# EAGLE library part ULITMATE-GPS-PI-HAT (library HElicopterLib)
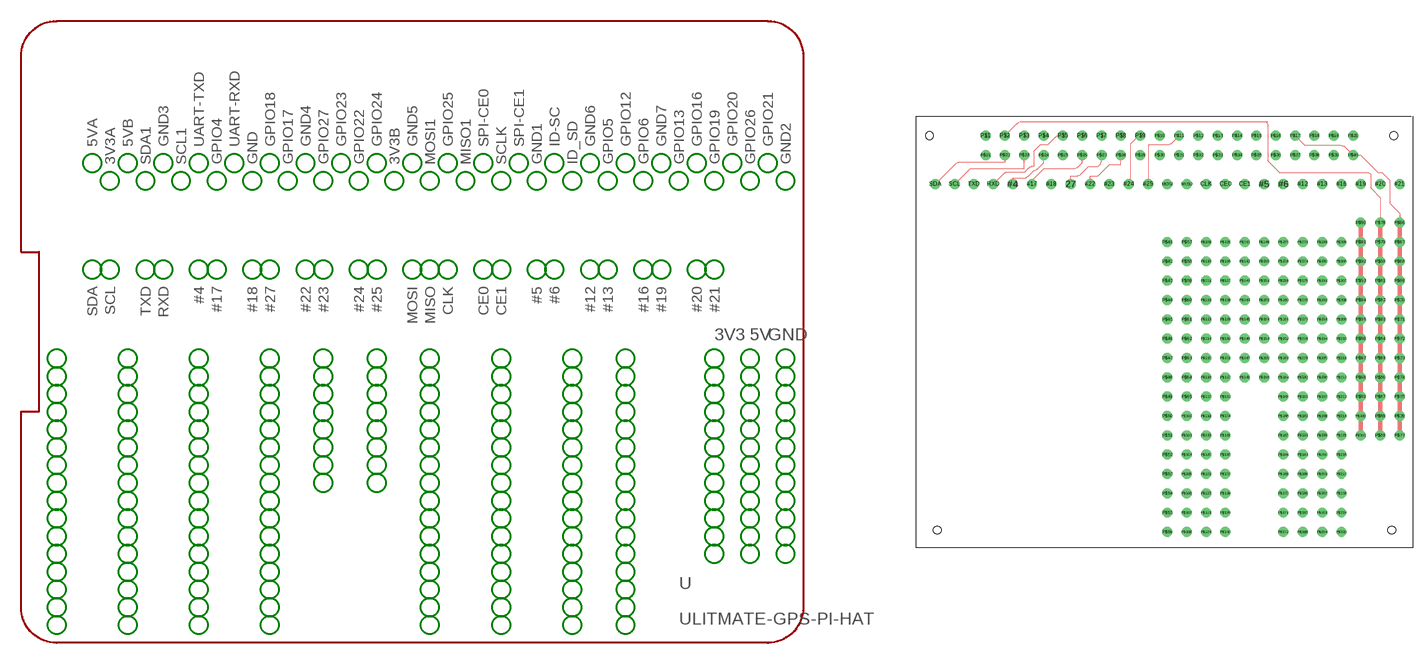
[diagram p1: symbol with the pads of ULITMATE-GPS-PI-HAT; footprint ULITMATE-GPS-PI-HAT]

Designator prefix -

## ULITMATE-GPS-PI-HAT  [ULITMATE-GPS-PI-HAT]
27  #27
#4  #4
#5  #5
#6  #6
#12  #12
#13  #13
#16  #16
#17  #17
#18  #18
#19  #19
#20  #20
#21  #21
#22  #22
#23  #23
#24  #24
#25  #25
CE0  CE0
CE1  CE1
CLK  CLK
MISO  MISO
MOSI  MOSI
P$1  5VA
P$2  5VB
P$3  GND3
P$4  UART-TXD
P$5  UART-RXD
P$6  GPIO18
P$7  GND4
P$8  GPIO23
P$9  GPIO24
P$10  GND5
P$11  GPIO25
P$12  SPI-CE0
P$13  SPI-CE1
P$14  ID-SC
P$15  GND6
P$16  GPIO12
P$17  GND7
P$18  GPIO16
P$19  GPIO20
P$20  GPIO21
P$21  3V3A
P$22  SDA1
P$23  SCL1
P$24  GPIO4
P$25  GND
P$26  GPIO17
P$27  GPIO27
P$28  GPIO22
P$29  3V3B
P$30  MOSI1
P$31  MISO1
P$32  SCLK
P$33  GND1
P$34  ID_SD
P$35  GPIO5
P$36  GPIO6
P$37  GPIO13
P$38  GPIO19
P$39  GPIO26
P$40  GND2
P$41  P$37
P$42  P$38
P$43  P$39
P$44  P$40
P$45  P$41
P$46  P$42
P$47  P$43
P$48  P$44
P$49  P$45
P$50  P$46
P$51  P$47
P$52  P$48
P$53  P$49
P$54  P$50
P$55  P$51
P$56  P$52
P$57  P$53
P$58  P$54
P$59  P$55
P$60  P$56
P$61  P$57
P$62  P$58
P$63  P$59
P$64  P$60
P$65  P$61
P$66  P$1  pwr
P$67  P$2  pwr
P$68  P$3  pwr
P$69  P$4  pwr
P$70  P$5  pwr
P$71  P$6  pwr
P$72  P$7  pwr
P$73  P$8  pwr
P$74  P$9  pwr
P$75  P$10  pwr
P$76  P$11  pwr
P$77  P$12  pwr
P$78  P$13  pwr
P$79  P$14  pwr
P$80  P$15  pwr
P$81  P$16  pwr
P$82  P$17  pwr
P$83  P$18  pwr
P$84  P$19  pwr
P$85  P$20  pwr
P$86  P$21  pwr
P$87  P$22  pwr
P$88  P$23  pwr
P$89  P$24  pwr
P$90  P$25  pwr
P$91  P$26  pwr
P$92  P$27  pwr
P$93  P$28  pwr
P$94  P$29  pwr
P$95  P$30  pwr
P$96  P$31  pwr
P$97  P$32  pwr
P$98  P$33  pwr
P$99  P$34  pwr
P$100  P$35  pwr
P$101  P$36  pwr
P$102  P$62
P$103  P$63
P$104  P$64
P$105  P$65
P$106  P$66
P$107  P$67
P$108  P$68
P$109  P$69
P$110  P$70
P$111  P$71
P$112  P$72
P$113  P$73
P$114  P$74
P$115  P$75
P$116  P$76
P$117  P$77
P$118  P$78
P$119  P$79
P$120  P$80
P$121  P$81
P$122  P$82
P$123  P$83
P$124  P$84
P$125  P$85
P$126  P$86
P$127  P$87
P$128  P$88
P$129  P$89
P$130  P$90
P$131  P$91
P$132  P$92
P$133  P$93
P$134  P$94
P$135  P$95
P$136  P$96
P$137  P$97
P$138  P$98
P$139  P$99
P$140  P$100
P$141  P$101
P$142  P$102
P$143  P$103
P$144  P$104
P$145  P$105
P$146  P$106
P$147  P$107
P$148  P$108
P$149  P$109
P$150  P$110
P$151  P$111
P$152  P$112
P$153  P$113
P$154  P$114
P$155  P$115
P$156  P$116
P$157  P$117
P$158  P$118
P$159  P$119
P$160  P$120
P$161  P$121
P$162  P$122
P$163  P$123
P$164  P$124
P$165  P$125
P$166  P$126
P$167  P$127
P$168  P$128
P$169  P$129
P$170  P$130
P$171  P$131
P$172  P$132
P$173  P$133
P$174  P$134
P$175  P$135
P$176  P$136
P$177  P$137
P$178  P$138
P$179  P$139
P$180  P$140
P$181  P$141
P$182  P$142
P$183  P$143
P$184  P$144
P$185  P$145
P$186  P$146
P$187  P$147
P$188  P$148
P$189  P$149
P$190  P$150
P$191  P$151
P$192  P$152
P$193  P$153
P$194  P$154
P$195  P$155
P$196  P$156
P$197  P$157
P$198  P$158
P$199  P$159
P$200  P$160
P$201  P$161
P$202  P$162
P$203  P$163
P$204  P$164
P$205  P$165
P$206  P$166
P$207  P$167
P$208  P$168
P$209  P$169
P$210  P$170
P$211  P$171
P$212  P$172
P$213  P$173
P$214  P$174
P$215  P$175
P$216  P$176
P$217  P$177
P$218  P$178
P$219  P$179
P$220  P$180
RXD  RXD
SCL  SCL
SDA  SDA
TXD  TXD

## Footprint ULITMATE-GPS-PI-HAT (pad centres in mm)
drill 0.8: 27 20.32,-8.89; #4 12.7,-8.89; #5 45.72,-8.89; #6 48.26,-8.89; #12 50.8,-8.89; #13 53.34,-8.89; #16 55.88,-8.89; #17 15.24,-8.89; #18 17.78,-8.89; #19 58.42,-8.89; #20 60.96,-8.89; #21 63.5,-8.89; #22 22.86,-8.89; #23 25.4,-8.89; #24 27.94,-8.89; #25 30.48,-8.89; CE0 40.64,-8.89; CE1 43.18,-8.89; CLK 38.1,-8.89; MISO 35.56,-8.89; MOSI 33.02,-8.89; P$1 9.144,-2.54; P$2 11.684,-2.54; P$3 14.224,-2.54; P$4 16.764,-2.54; P$5 19.304,-2.54; P$6 21.844,-2.54; P$7 24.384,-2.54; P$8 26.924,-2.54; P$9 29.464,-2.54; P$10 32.004,-2.54; P$11 34.544,-2.54; P$12 37.084,-2.54; P$13 39.624,-2.54; P$14 42.164,-2.54; P$15 44.704,-2.54; P$16 47.244,-2.54; P$17 49.784,-2.54; P$18 52.324,-2.54; P$19 54.864,-2.54; P$20 57.404,-2.54; P$21 9.144,-5.08; P$22 11.684,-5.08; P$23 14.224,-5.08; P$24 16.764,-5.08; P$25 19.304,-5.08; P$26 21.844,-5.08; P$27 24.384,-5.08; P$28 26.924,-5.08; P$29 29.464,-5.08; P$30 32.004,-5.08; P$31 34.544,-5.08; P$32 37.084,-5.08; P$33 39.624,-5.08; P$34 42.164,-5.08; P$35 44.704,-5.08; P$36 47.244,-5.08; P$37 49.784,-5.08; P$38 52.324,-5.08; P$39 54.864,-5.08; P$40 57.404,-5.08; P$41 33.02,-16.51; P$42 33.02,-19.05; P$43 33.02,-21.59; P$44 33.02,-24.13; P$45 33.02,-26.67; P$46 33.02,-29.21; P$47 33.02,-31.75; P$48 33.02,-34.29; P$49 33.02,-36.83; P$50 33.02,-39.37; P$51 33.02,-41.91; P$52 33.02,-44.45; P$53 33.02,-46.99; P$54 33.02,-49.53; P$55 33.02,-52.07; P$56 33.02,-54.61; P$57 35.56,-16.51; P$58 35.56,-19.05; P$59 35.56,-21.59; P$60 35.56,-24.13; P$61 35.56,-26.67; P$62 35.56,-29.21; P$63 35.56,-31.75; P$64 35.56,-34.29; P$65 35.56,-36.83; P$66 63.5,-13.97; P$67 63.5,-16.51; P$68 63.5,-19.05; P$69 63.5,-21.59; P$70 63.5,-24.13; P$71 63.5,-26.67; P$72 63.5,-29.21; P$73 63.5,-31.75; P$74 63.5,-34.29; P$75 63.5,-36.83; P$76 63.5,-39.37; P$77 63.5,-41.91; P$78 60.96,-13.97; P$79 60.96,-16.51; P$80 60.96,-19.05; P$81 60.96,-21.59; P$82 60.96,-24.13; P$83 60.96,-26.67; P$84 60.96,-29.21; P$85 60.96,-31.75; P$86 60.96,-34.29; P$87 60.96,-36.83; P$88 60.96,-39.37; P$89 60.96,-41.91; P$90 58.42,-13.97; P$91 58.42,-16.51; P$92 58.42,-19.05; P$93 58.42,-21.59; P$94 58.42,-24.13; P$95 58.42,-26.67; P$96 58.42,-29.21; P$97 58.42,-31.75; P$98 58.42,-34.29; P$99 58.42,-36.83; P$100 58.42,-39.37; P$101 58.42,-41.91; P$102 35.56,-39.37; P$103 35.56,-41.91; P$104 35.56,-44.45; P$105 35.56,-46.99; P$106 35.56,-49.53; P$107 35.56,-52.07; P$108 35.56,-54.61; P$109 38.1,-16.51; P$110 38.1,-19.05; P$111 38.1,-21.59; P$112 38.1,-24.13; P$113 38.1,-26.67; P$114 38.1,-29.21; P$115 38.1,-31.75; P$116 38.1,-34.29; P$117 38.1,-36.83; P$118 38.1,-39.37; P$119 38.1,-41.91; P$120 38.1,-44.45; P$121 38.1,-46.99; P$122 38.1,-49.53; P$123 38.1,-52.07; P$124 38.1,-54.61; P$125 40.64,-16.51; P$126 40.64,-19.05; P$127 40.64,-21.59; P$128 40.64,-24.13; P$129 40.64,-26.67; P$130 40.64,-29.21; P$131 40.64,-31.75; P$132 40.64,-34.29; P$133 40.64,-36.83; P$134 40.64,-39.37; P$135 40.64,-41.91; P$136 40.64,-44.45; P$137 40.64,-46.99; P$138 40.64,-49.53; P$139 40.64,-52.07; P$140 40.64,-54.61; P$141 43.18,-16.51; P$142 43.18,-19.05; P$143 43.18,-21.59; P$144 43.18,-24.13; P$145 43.18,-26.67; P$146 43.18,-29.21; P$147 43.18,-31.75; P$148 43.18,-34.29; P$149 45.72,-16.51; P$150 45.72,-19.05; P$151 45.72,-21.59; P$152 45.72,-24.13; P$153 45.72,-26.67; P$154 45.72,-29.21; P$155 45.72,-31.75; P$156 45.72,-34.29; P$157 48.26,-16.51; P$158 48.26,-19.05; P$159 48.26,-21.59; P$160 48.26,-24.13; P$161 48.26,-26.67; P$162 48.26,-29.21; P$163 48.26,-31.75; P$164 48.26,-34.29; P$165 48.26,-36.83; P$166 48.26,-39.37; P$167 48.26,-41.91; P$168 48.26,-44.45; P$169 48.26,-46.99; P$170 48.26,-49.53; P$171 48.26,-52.07; P$172 48.26,-54.61; P$173 50.8,-16.51; P$174 50.8,-19.05; P$175 50.8,-21.59; P$176 50.8,-24.13; P$177 50.8,-26.67; P$178 50.8,-29.21; P$179 50.8,-31.75; P$180 50.8,-34.29; P$181 50.8,-36.83; P$182 50.8,-39.37; P$183 50.8,-41.91; P$184 50.8,-44.45; P$185 50.8,-46.99; P$186 50.8,-49.53; P$187 50.8,-52.07; P$188 50.8,-54.61; P$189 53.34,-16.51; P$190 53.34,-19.05; P$191 53.34,-21.59; P$192 53.34,-24.13; P$193 53.34,-26.67; P$194 53.34,-29.21; P$195 53.34,-31.75; P$196 53.34,-34.29; P$197 53.34,-36.83; P$198 53.34,-39.37; P$199 53.34,-41.91; P$200 53.34,-44.45; P$201 53.34,-46.99; P$202 53.34,-49.53; P$203 53.34,-52.07; P$204 53.34,-54.61; P$205 55.88,-16.51; P$206 55.88,-19.05; P$207 55.88,-21.59; P$208 55.88,-24.13; P$209 55.88,-26.67; P$210 55.88,-29.21; P$211 55.88,-31.75; P$212 55.88,-34.29; P$213 55.88,-36.83; P$214 55.88,-39.37; P$215 55.88,-41.91; P$216 55.88,-44.45; P$217 55.88,-46.99; P$218 55.88,-49.53; P$219 55.88,-52.07; P$220 55.88,-54.61; RXD 10.16,-8.89; SCL 5.08,-8.89; SDA 2.54,-8.89; TXD 7.62,-8.89
hole 1 at 1.778,-2.54
hole 1 at 62.738,-2.54
hole 1 at 62.484,-54.356
hole 1 at 2.794,-54.356